# EAGLE library part 691313510011 (library Wurth_Terminal_Blocks_Connectors_rev15d)
WR-TBL Serie 313 - 5.08 mm Close Horizontal PCB Header , 11 Pins=>Code : Con_TBL_Pluggable_5.08_PCB_THT_Simple_H_691313510011 <http://katalog.we-online.de/media/images/eican/Con_TBL_Pluggable_5.08_PCB_THT_Simple_H_6913135100xx_pf2.jpg> Details see: http://katalog.we-online.de/en/em/691_313_510_0xx Created 2014-06-25, Karrer Zheng 2014 (C) Würth Elektronik
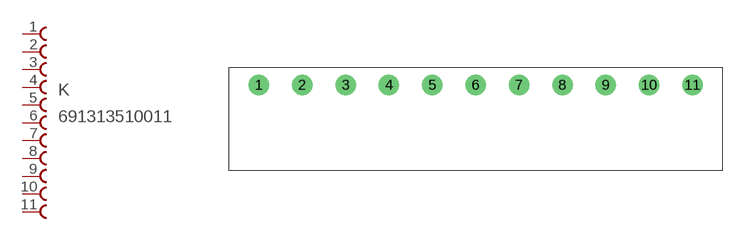
[diagram p117: symbol with the pads of 691313510011; footprint 691313510011]

Designator prefix K

## 691313510011  [691313510011]
1  1  pas
2  2  pas
3  3  pas
4  4  pas
5  5  pas
6  6  pas
7  7  pas
8  8  pas
9  9  pas
10  10  pas
11  11  pas

## Footprint 691313510011 (pad centres in mm)
WR-TBL Serie 313 - 5.08 mm Close Horizontal PCB Header , 11 Pins
drill 1.6: 1 -35.56,0; 2 -30.48,0; 3 -25.4,0; 4 -20.32,0; 5 -15.24,0; 6 -10.16,0; 7 -5.08,0; 8 0,0; 9 5.08,0; 10 10.16,0; 11 15.24,0